# EAGLE library part ATMEGA328*-?_TQFP (library LoganSmith-Digital_IC)
Atmel ATmega328P 8-bit microcontroller with 32KB of flash, datasheet <http://www.atmel.com/images/Atmel-8271-8-bit-AVR-Microcontroller-ATmega48A-48PA-88A-88PA-168A-168PA-328-328P_datasheet_Complete.pdf>
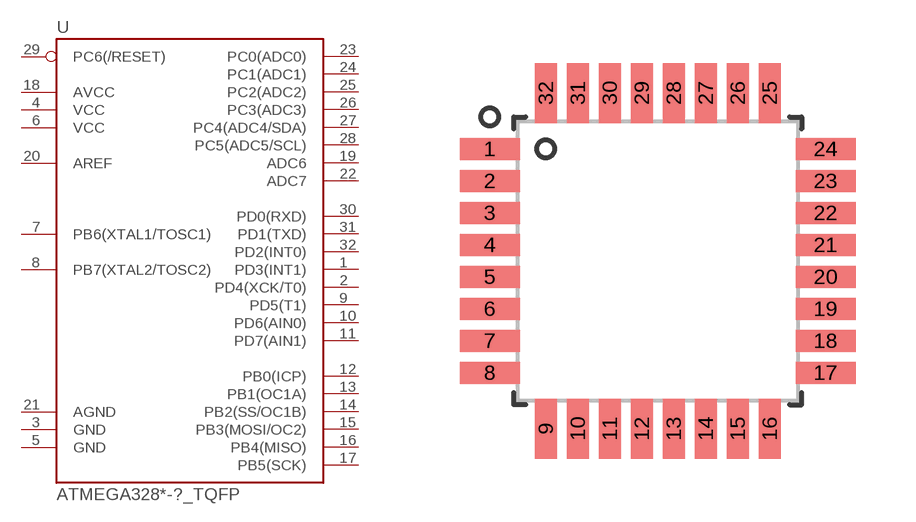
[diagram p4: symbol with the pads of TQFP-32; footprint TQFP-32]

Designator prefix -

## ATMEGA328P-AN_TQFP (DESC: 8-bit AVR 20MHz 32KB flash 1.8V to 5.5V 8x10b ADC 23 I/O I2C SPI UART/USART; DIGIKEY_OC: ATMEGA328P-AN-ND; HEIGHT: 1.2mm; MFR: Atmel; MPN: ATMEGA328-AN; TEMP: -40C to 105C)  [TQFP-32]
1  PD3(INT1)
2  PD4(XCK/T0)
3  GND  pwr
4  VCC  pwr
5  GND  pwr
6  VCC  pwr
7  PB6(XTAL1/TOSC1)
8  PB7(XTAL2/TOSC2)
9  PD5(T1)
10  PD6(AIN0)
11  PD7(AIN1)
12  PB0(ICP)
13  PB1(OC1A)
14  PB2(SS/OC1B)
15  PB3(MOSI/OC2)
16  PB4(MISO)
17  PB5(SCK)
18  AVCC  pwr
19  ADC6
20  AREF
21  AGND  pwr
22  ADC7
23  PC0(ADC0)
24  PC1(ADC1)
25  PC2(ADC2)
26  PC3(ADC3)
27  PC4(ADC4/SDA)
28  PC5(ADC5/SCL)
29  PC6(/RESET)
30  PD0(RXD)
31  PD1(TXD)
32  PD2(INT0)

## ATMEGA328-AU_TQFP (DESC: 8-bit AVR 20MHz 32KB flash 1.8V to 5.5V 8x10b ADC 23 I/O I2C SPI UART/USART; DIGIKEY_OC: ATMEGA328-AU-ND; HEIGHT: 1.2mm; MFR: Atmel; MPN: ATMEGA328-AU; TEMP: -40C to 85C), ATMEGA328P-AU_TQFP (DESC: 8-bit AVR 20MHz 32KB flash 1.8V to 5.5V 8x10b ADC 23 I/O I2C SPI UART/USART; DIGIKEY_OC: ATMEGA328P-AU-ND; HEIGHT: 1.2mm; MFR: Atmel; MPN: ATMEGA328P-AU; TEMP: -40C to 85C)  [TQFP-32]
Pads as for TQFP-32

## ATMEGA328P-15AZ_TQFP (DESC: Automotive AEC-Q100 8-bit AVR 20MHz 32KB flash 1.8V to 5.5V 8x10b ADC 23 I/O I2C SPI UART/USART; DIGIKEY_OC: ATMEGA328P-15AZCT-ND; HEIGHT: 1.2mm; MFR: Atmel; MPN: ATMEGA328P-15AZ; TEMP: -40C to 125C)  [TQFP-32]
Pads as for TQFP-32

## Footprint TQFP-32 (pad centres in mm)
TQFP-32 7x7mm body based on datasheet <http://www.atmel.com/images/atmel-8826-seeprom-pcb-mounting-guidelines-surface-mount-packages-applicationnote.pdf>
smd 1.5 x 0.55: 1 -4.2,2.8; 2 -4.2,2; 3 -4.2,1.2; 4 -4.2,0.4; 5 -4.2,-0.4; 6 -4.2,-1.2; 7 -4.2,-2; 8 -4.2,-2.8; 17 4.2,-2.8; 18 4.2,-2; 19 4.2,-1.2; 20 4.2,-0.4; 21 4.2,0.4; 22 4.2,1.2; 23 4.2,2; 24 4.2,2.8
smd 0.55 x 1.5: 9 -2.8,-4.2; 10 -2,-4.2; 11 -1.2,-4.2; 12 -0.4,-4.2; 13 0.4,-4.2; 14 1.2,-4.2; 15 2,-4.2; 16 2.8,-4.2; 25 2.8,4.2; 26 2,4.2; 27 1.2,4.2; 28 0.4,4.2; 29 -0.4,4.2; 30 -1.2,4.2; 31 -2,4.2; 32 -2.8,4.2